# Altium footprint library 开关.PcbLib: 1 footprints
Each footprint in its own frame and in the unit in brackets; x right, y up, seen from the top. Pads: shape width x height; smd on the part's side, far side on the other; paste and mask are expansions set on the pad; w line width, h text height; cw(c..) or ccw(c..) is an arc to the next point about the centre after c.
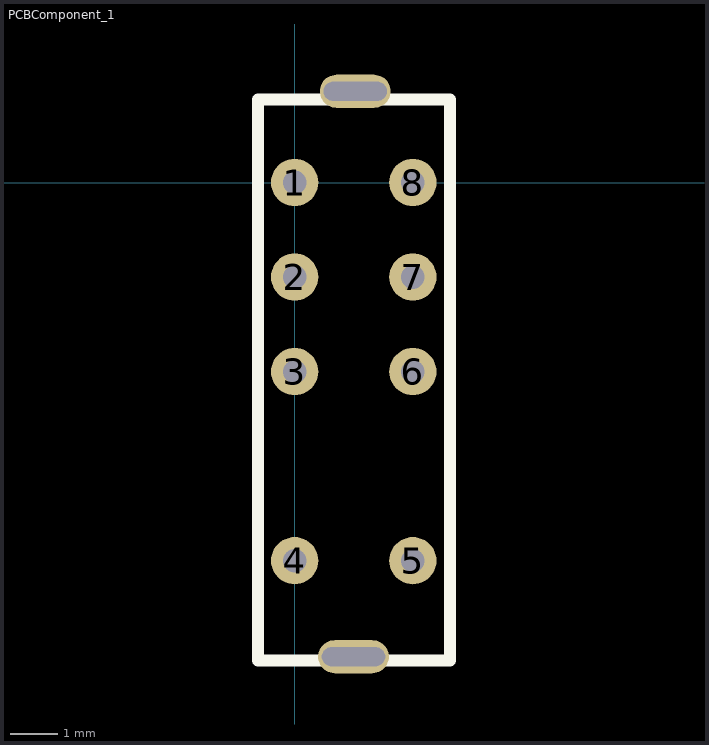
[diagram p0: the footprint, top view; thin cyan lines are the x and y axes]

## PCBComponent_1 [mm]
pads (10):
  round 1 hole 0.5: 1(0,0) 2(0,-2) 3(0,-4) 4(0,-8) 5(2.5,-8) 6(2.5,-4) 7(2.5,-2) 8(2.5,0)
  oval 1.5x0.7 hole 0.4 slot 1.34 at 0 deg: ""(1.245,-10.033) ""(1.281,1.93)
Top Overlay:
  lines w0.254: -0.777,-10.109 3.287,-10.109 3.287,1.753 -0.777,1.753 -0.777,-10.109